# Altium footprint library WAVESHARE_RP2040-Zero.PcbLib: 1 footprints
Each footprint in its own frame and in the unit in brackets; x right, y up, seen from the top. Pads: shape width x height; smd on the part's side, far side on the other; paste and mask are expansions set on the pad; w line width, h text height; cw(c..) or ccw(c..) is an arc to the next point about the centre after c.
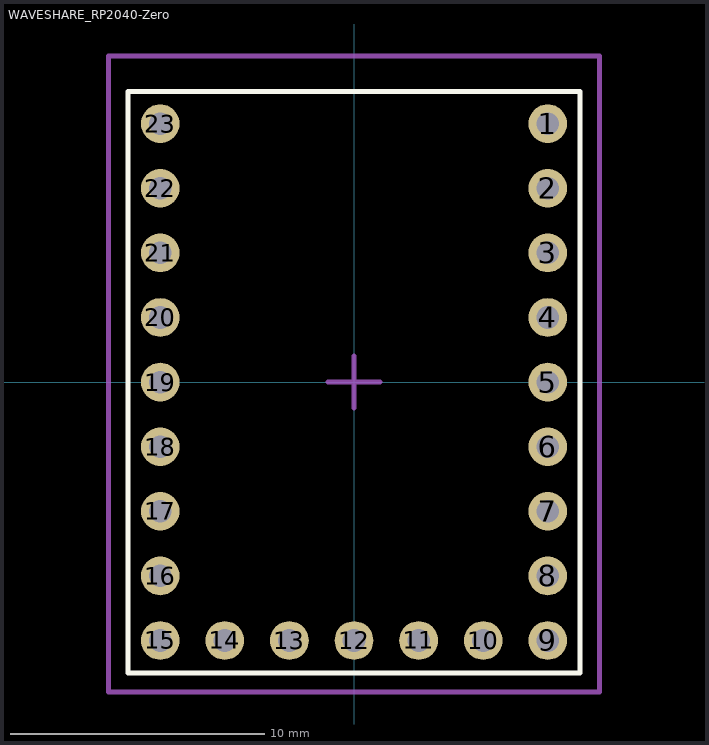
[diagram p0: the footprint, top view; thin cyan lines are the x and y axes]

## WAVESHARE_RP2040-Zero [mil]
pads (23):
  round 60 hole 35: 1(300,400) 2(300,300) 3(300,200) 4(300,100) 5(300,0) 6(300,-100) 7(300,-200) 8(300,-300) 9(300,-400) 10(200,-400) 11(100,-400) 12(0,-400) 13(-100,-400) 14(-200,-400) 15(-300,-400) 16(-300,-300) 17(-300,-200) 18(-300,-100) 19(-300,0) 20(-300,100) 21(-300,200) 22(-300,300) 23(-300,400)
Top Overlay:
  lines w7.87: -350,-450 350,-450 350,450 250,450 -350,450 -350,-450
Mechanical 15:
  lines w7.87: -40,0 40,0 ; 0,-40 0,40 ; -380,-480 -380,505 380,505 380,-480 -380,-480